# Altium footprint library SOIC127P1030X265-28N.PcbLib: 1 footprints
Each footprint in its own frame and in the unit in brackets; x right, y up, seen from the top. Pads: shape width x height; smd on the part's side, far side on the other; paste and mask are expansions set on the pad; w line width, h text height; cw(c..) or ccw(c..) is an arc to the next point about the centre after c.
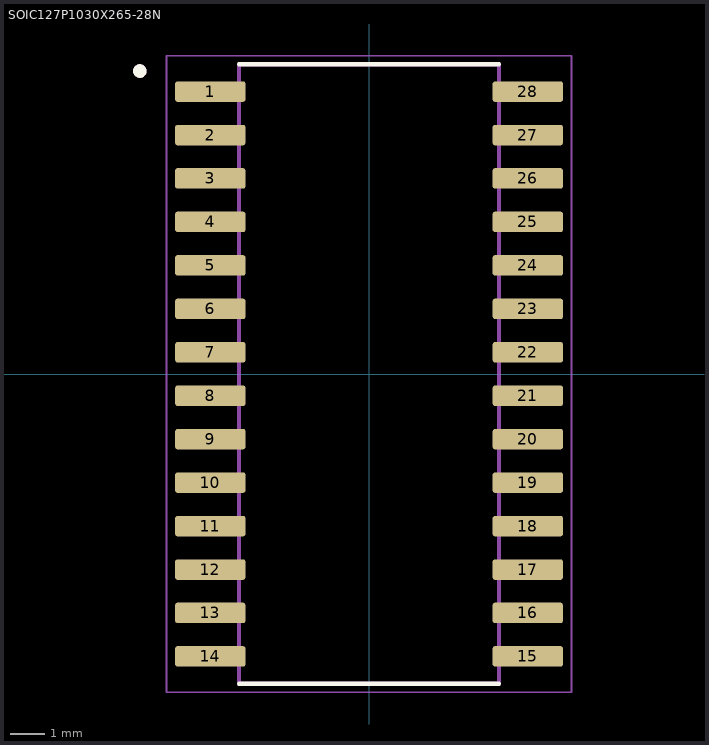
[diagram p0: the footprint, top view; thin cyan lines are the x and y axes]

## SOIC127P1030X265-28N [mm]
pads (28):
  rrect25% 2.06x0.6 smd: 1(-4.64,8.255) 2(-4.64,6.985) 3(-4.64,5.715) 4(-4.64,4.445) 5(-4.64,3.175) 6(-4.64,1.905) 7(-4.64,0.635) 8(-4.64,-0.635) 9(-4.64,-1.905) 10(-4.64,-3.175) 11(-4.64,-4.445) 12(-4.64,-5.715) 13(-4.64,-6.985) 14(-4.64,-8.255) 15(4.64,-8.255) 16(4.64,-6.985) 17(4.64,-5.715) 18(4.64,-4.445) 19(4.64,-3.175) 20(4.64,-1.905) 21(4.64,-0.635) 22(4.64,0.635) 23(4.64,1.905) 24(4.64,3.175) 25(4.64,4.445) 26(4.64,5.715) 27(4.64,6.985) 28(4.64,8.255)
Top Overlay:
  circle w0.2: c-6.7,8.855 r0.1
  lines w0.127: -3.8,-9.05 3.8,-9.05 ; -3.8,9.05 3.8,9.05
Assembly Top:
  circle w0.2: c-6.7,8.855 r0.1
  lines w0.127: -3.8,-9.05 -3.8,9.05 3.8,9.05 3.8,-9.05 -3.8,-9.05
Courtyard Top:
  lines w0.05: -5.92,-9.3 -5.92,9.3 5.92,9.3 5.92,-9.3 -5.92,-9.3
3D body "step_temp.STEP": height 2.65, standoff 0, extent -5.15,-8.95 5.15,8.95